# Altium footprint library ESP32.PcbLib: 3 footprints
Each footprint in its own frame and in the unit in brackets; x right, y up, seen from the top. Pads: shape width x height; smd on the part's side, far side on the other; paste and mask are expansions set on the pad; w line width, h text height; cw(c..) or ccw(c..) is an arc to the next point about the centre after c.
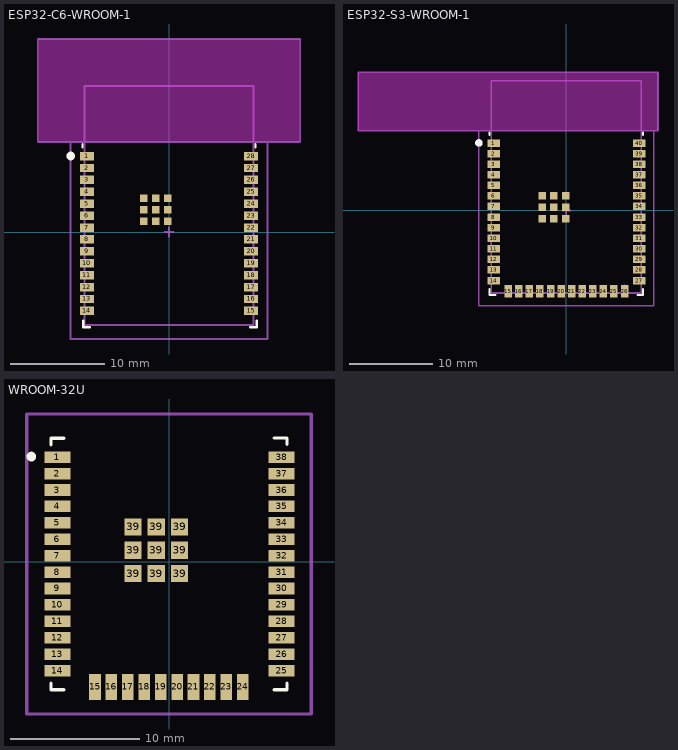
[diagram p0: the footprints below, top view; thin cyan lines are the x and y axes]

## ESP32-C6-WROOM-1 [mm] "ESP32-C6-WROOM-1"
height 3.1
pads (37):
  rect 1.5x0.9 smd: 1(-8.75,8.1) 2(-8.75,6.83) 3(-8.75,5.56) 4(-8.75,4.29) 5(-8.75,3.02) 6(-8.75,1.75) 7(-8.75,0.48) 8(-8.75,-0.79) 9(-8.75,-2.06) 10(-8.75,-3.33) 11(-8.75,-4.6) 12(-8.75,-5.87) 13(-8.75,-7.14) 14(-8.75,-8.41) 15(8.75,-8.41) 16(8.75,-7.14) 17(8.75,-5.87) 18(8.75,-4.6) 19(8.75,-3.33) 20(8.75,-2.06) 21(8.75,-0.79) 22(8.75,0.48) 23(8.75,1.75) 24(8.75,3.02) 25(8.75,4.29) 26(8.75,5.56) 27(8.75,6.83) 28(8.75,8.1)
  rect 0.8x0.8 smd: 29(-2.67,1.14) 29(-2.67,2.38) 29(-2.67,3.63) 29(-1.41,1.14) 29(-1.41,2.38) 29(-1.41,3.63) 29(-0.16,1.14) 29(-0.16,2.38) 29(-0.16,3.63)
Top Overlay:
  circle w0.5: c-10.49,8.11 r0.21
  lines w0.254: -9.23,9.06 -9.23,9.36 ; -9.14,-9.46 -9.14,-10.16 -8.44,-10.16 ; 8.66,-10.16 9.36,-10.16 9.36,-9.46 ; 9.23,9.06 9.23,9.36
Keep-Out Layer:
  rectangle: -14,9.59 14,20.59
Mechanical 13:
  lines w0.2: -9,9.59 -14,9.59 -14,20.59 14,20.59 14,9.59 9,9.59 ; -9,9.59 -9,15.59 ; -9,9.59 9,9.59 ; -9,15.59 -9,-9.91 9,-9.91 9,15.59 ; -9,15.59 9,15.59 ; 9,9.59 9,15.59
Mechanical 15:
  lines w0.2: -0.5,-0.01 0.5,-0.01 ; 0,-0.5 0,0.5 ; -10.51,-11.41 -10.51,9.59 10.49,9.59 10.49,-9.91 10.49,-11.41 -10.51,-11.41
3D body "ESP32-C6-WROOM-1-N8.STEP": height 3.25, standoff 0, extent -8.91,-9.91 9.09,15.59

## ESP32-S3-WROOM-1 [mm] "ESP32-S3-WROOM-1"
height 3.5
pads (49):
  rect 1.5x0.9 smd: 1(-8.72,8.1) 2(-8.72,6.83) 3(-8.72,5.56) 4(-8.72,4.29) 5(-8.72,3.02) 6(-8.72,1.75) 7(-8.72,0.48) 8(-8.72,-0.79) 9(-8.72,-2.06) 10(-8.72,-3.33) 11(-8.72,-4.6) 12(-8.72,-5.87) 13(-8.72,-7.14) 14(-8.72,-8.41) 27(8.73,-8.41) 28(8.73,-7.14) 29(8.73,-5.87) 30(8.73,-4.6) 31(8.73,-3.33) 32(8.73,-2.06) 33(8.73,-0.79) 34(8.73,0.48) 35(8.73,1.75) 36(8.73,3.02) 37(8.73,4.29) 38(8.73,5.56) 39(8.73,6.83) 40(8.73,8.1)
  rect 0.9x1.5 smd: 15(-6.973,-9.667) 16(-5.703,-9.667) 17(-4.433,-9.667) 18(-3.163,-9.667) 19(-1.893,-9.667) 20(-0.623,-9.667) 21(0.647,-9.667) 22(1.917,-9.667) 23(3.187,-9.667) 24(4.457,-9.667) 25(5.727,-9.667) 26(6.997,-9.667)
  rect 0.9x0.9 smd: 41(-2.88,-1.01) 41(-2.88,0.39) 41(-2.88,1.79) 41(-1.48,-1.01) 41(-1.48,0.39) 41(-1.48,1.79) 41(-0.08,-1.01) 41(-0.08,0.39) 41(-0.08,1.79)
Top Overlay:
  circle w0.5: c-10.49,8.11 r0.201
  lines w0.254: -9.22,-9.43 -9.22,-10.13 -8.52,-10.13 ; -9.21,9.06 -9.21,9.36 ; 8.53,-10.13 9.23,-10.13 9.23,-9.43 ; 9.23,9.06 9.23,9.36
Keep-Out Layer:
  rectangle: -25,9.58 11,16.58
Mechanical 13:
  lines w0.2: 6.99,-8.96 7.03,-8.96 ; -8.99,9.58 9.01,9.58 ; -8.99,9.58 -8.99,15.58 ; -8.99,9.58 -24.99,9.58 -24.99,16.58 11.01,16.58 11.01,9.58 9.01,9.58 ; -8.99,15.58 9.01,15.58 ; -8.99,15.58 -8.99,-9.91 9.01,-9.91 ; 9.01,-9.91 9.01,15.58 ; 9.01,-9.91 9.01,-9.91 ; 9.01,9.58 9.01,15.58
Mechanical 15:
  lines w0.2: -0.5,0 0.5,0 ; 0,-0.5 0,0.5 ; -10.49,-11.42 -10.49,9.58 10.51,9.58 10.51,-9.91 10.51,-11.42 -10.49,-11.42
3D body "User Library-ESP32-S3-WROOM-1.STEP": height 3.11, standoff 0, extent -8.98,-9.9 9.02,15.6

## WROOM-32U [mm] "ESP32-WROOM-32U"
height 3.5
pads (47):
  rect 2x0.9 smd: 1(-8.65,8.1) 2(-8.65,6.83) 3(-8.65,5.56) 4(-8.65,4.29) 5(-8.65,3.02) 6(-8.65,1.75) 7(-8.65,0.48) 8(-8.65,-0.79) 9(-8.65,-2.06) 10(-8.65,-3.33) 11(-8.65,-4.6) 12(-8.65,-5.87) 13(-8.65,-7.14) 14(-8.65,-8.41) 25(8.7,-8.41) 26(8.7,-7.14) 27(8.7,-5.87) 28(8.7,-4.6) 29(8.7,-3.33) 30(8.7,-2.06) 31(8.7,-0.79) 32(8.7,0.48) 33(8.7,1.75) 34(8.7,3.02) 35(8.7,4.29) 36(8.7,5.56) 37(8.7,6.83) 38(8.7,8.1)
  rect 0.9x2 smd: 15(-5.74,-9.68) 16(-4.47,-9.68) 17(-3.2,-9.68) 18(-1.93,-9.68) 19(-0.66,-9.68) 20(0.61,-9.68) 21(1.88,-9.68) 22(3.15,-9.68) 23(4.42,-9.68) 24(5.69,-9.68)
  rect 1.33x1.33 smd: 39(-2.8,-0.9) 39(-2.8,0.9) 39(-2.8,2.7) 39(-1,-0.9) 39(-1,0.9) 39(-1,2.7) 39(0.8,-0.9) 39(0.8,0.9) 39(0.8,2.7)
Top Overlay:
  circle w0.4: c-10.67,8.15 r0.17
  lines w0.254: -9.15,9.071 -9.15,9.571 -8.15,9.571 ; -9.14,-9.4 -9.14,-9.9 -8.14,-9.9 ; 8.12,-9.9 9.12,-9.9 9.12,-9.4 ; 8.12,9.581 9.12,9.581 9.12,9.081
Mechanical 13:
  lines w0.254: -11.01,-11.77 -11.01,11.44 10.98,11.44 10.98,-11.77 -11.01,-11.77
3D body "ESP32-WROOM-32U.step": height 3.2, standoff 0, extent -9.01,-9.77 8.99,9.43